# Altium schematic symbol library lcsc com.SCHLIB: 2 symbols
Pins are listed as number, name and electrical type; pins without a type are passive.

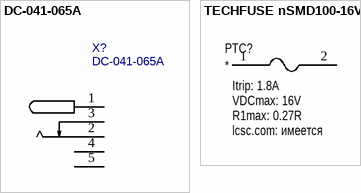
[diagram p0: symbols DC-041-065A to TECHFUSE nSMD100-16V]

## DC-041-065A
designator X?
Surface Mount DC Power Receptacle 0.65mm -20℃~+70℃ 2.6mm 500mA 30V SMD AC/DC Power Connectors ROHS; BOM_Manufacturer: Rectangular Connectors - Contacts; Contributor: LCSC; Parameter 2: *https://www.chipdip.ru/product0/8008282288; BOM_Supplier: LCSC; BOM_Supplier Part: C192728; BOM_Manufacturer Part: DC-041-065A; BOM_JLCPCB Part Class: Extended Part; spicePre: D; spiceSymbolName: DC-041; Parameter 1: https://lcsc.com/product-detail/AC-DC-Power-Connectors_Korean-Hroparts-Elec-DC-041-065A_C192728.html; Inside Contact Diameter: 0.65mm; Outside Contact Diameter: 2.6mm
footprint DC-041-065A
pins: 1, 2, 3, 4, 5

## TECHFUSE nSMD100-16V
designator PTC?  lcsc.com: имеется  R1max: 0.27R  VDCmax: 16V  Itrip: 1.8A
Parameter 1: https://lcsc.com/product-detail/Resettable-Fuses_TECHFUSE-nSMD100-16V_C70082.html
footprint nSMD100-16V
pins: 1, 2